# Altium footprint library CON HLE-110-02-x-DV-PE.PcbLib: 1 footprints
Each footprint in its own frame and in the unit in brackets; x right, y up, seen from the top. Pads: shape width x height; smd on the part's side, far side on the other; paste and mask are expansions set on the pad; w line width, h text height; cw(c..) or ccw(c..) is an arc to the next point about the centre after c.
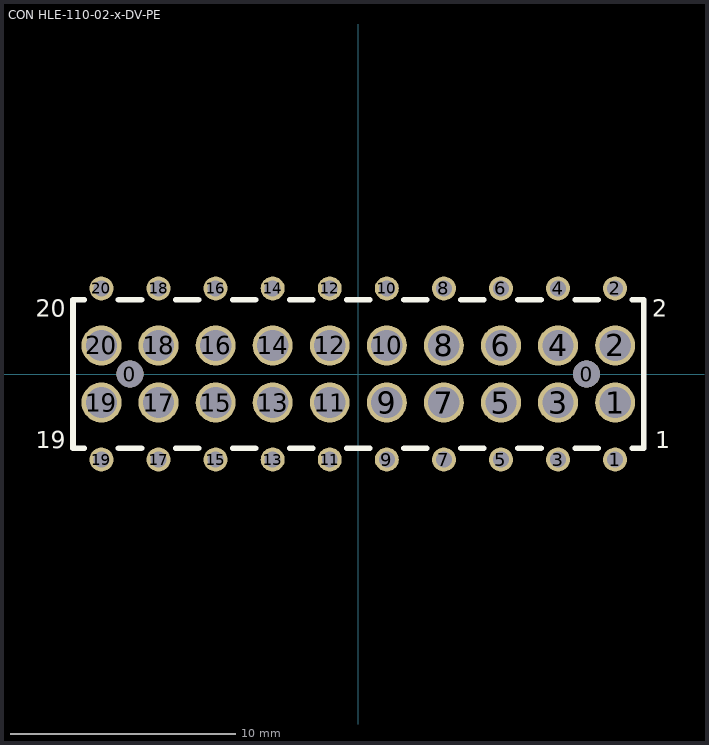
[diagram p0: the footprint, top view; thin cyan lines are the x and y axes]

## CON HLE-110-02-x-DV-PE [mil]
pads (42):
  round 47 hole 47 unplated: 0(-400,0) 0(400,0)
  round 42 hole 28: 1(450,-150) 2(450,150) 3(350,-150) 4(350,150) 5(250,-150) 6(250,150) 7(150,-150) 8(150,150) 9(50,-150) 10(50,150) 11(-50,-150) 12(-50,150) 13(-150,-150) 14(-150,150) 15(-250,-150) 16(-250,150) 17(-350,-150) 18(-350,150) 19(-450,-150) 20(-450,150)
  round 70 hole 55: 1(450,-50) 2(450,50) 3(350,-50) 4(350,50) 5(250,-50) 6(250,50) 7(150,-50) 8(150,50) 9(50,-50) 10(50,50) 11(-50,-50) 12(-50,50) 13(-150,-50) 14(-150,50) 15(-250,-50) 16(-250,50) 17(-350,-50) 18(-350,50) 19(-450,-50) 20(-450,50)
Top Overlay:
  lines w10: -480,-130 -500,-130 -500,130 -480,130 ; -420,-130 -380,-130 ; -420,130 -380,130 ; -320,-130 -280,-130 ; -320,130 -280,130 ; -220,-130 -180,-130 ; -220,130 -180,130 ; -120,-130 -80,-130 ; -120,130 -80,130 ; -20,-130 20,-130 ; -20,130 20,130 ; 80,-130 120,-130 ; 80,130 120,130 ; 180,-130 220,-130 ; 180,130 220,130 ; 280,-130 320,-130 ; 280,130 320,130 ; 380,-130 420,-130 ; 380,130 420,130 ; 480,-130 500,-130 500,130 480,130
  text "19" at -565,-130 h30
  text "20" at -565,100 h30
  text "2" at 515,100 h30
  text "1" at 520,-130 h30
3D body: height 144.6, standoff -83.4, extent -500,-153 500,153